# EAGLE library part USB (library usbxlater)
USB Connectors USB-B-PTH is fully proven SKU : PRT-00139 USB-miniB is fully proven SKU : PRT-00587 USB-A-PCB is untested. USB-A-H is throughly reviewed, but untested. Spark Fun Electronics SKU : PRT-00437 USB-B-SMT is throughly reviewed, but untested. Needs silkscreen touching up. USB-A-S has not been used/tested USB-MB-H has not been used/tested
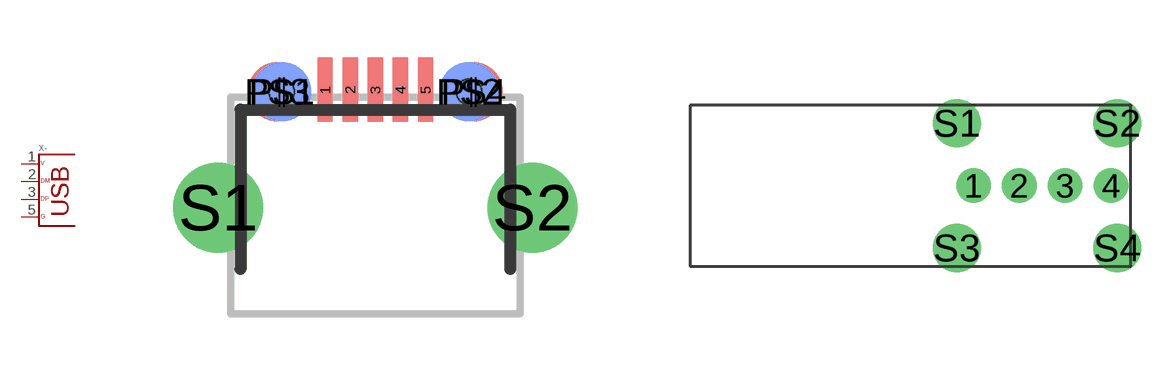
[diagram p1: symbol with the pads of USB_MICRO_B; footprints USB_MICRO_B, USB-A-RV]

Designator prefix X; gates -=USB G$2=POINT G$3=POINT G$4=POINT G$5=POINT

## USB-MICRO_B  [USB_MICRO_B]
1  -:VBUS
2  -:D-
3  -:D+
5  -:GND
P$1  G$5:P$1
P$2  G$4:P$1
S1  G$2:P$1
S2  G$3:P$1

## USB-A-RV  [USB-A-RV]
1  -:VBUS
2  -:D-
3  -:D+
4  -:GND
S1  G$2:P$1
S2  G$3:P$1
S3  G$4:P$1
S4  G$5:P$1

## Footprint USB_MICRO_B (pad centres in mm)
smd 0.4 x 1.651: 1 -1.3,3.048; 2 -0.65,3.048; 3 0,3.048; 4 0.65,3.048; 5 1.3,3.048
smd 1.524 x 1.524 bottom: P$1 -2.425,3; P$2 2.425,3
smd 1.524 x 1.524: P$3 -2.54,3; P$4 2.54,3
drill 1.55: S1 -4.064,0; S2 4.064,0
hole 0.65 at -2.425,3
hole 0.65 at 2.425,3

## Footprint USB-A-RV (pad centres in mm)
drill 1: 1 -3,0; 2 -1,0; 3 1,0; 4 3,0
drill 1.4: S1 -3.73,2.72; S2 3.27,2.72; S3 -3.73,-2.72; S4 3.27,-2.72